# EAGLE library part ADS1256IDBT (library nanoeeg)
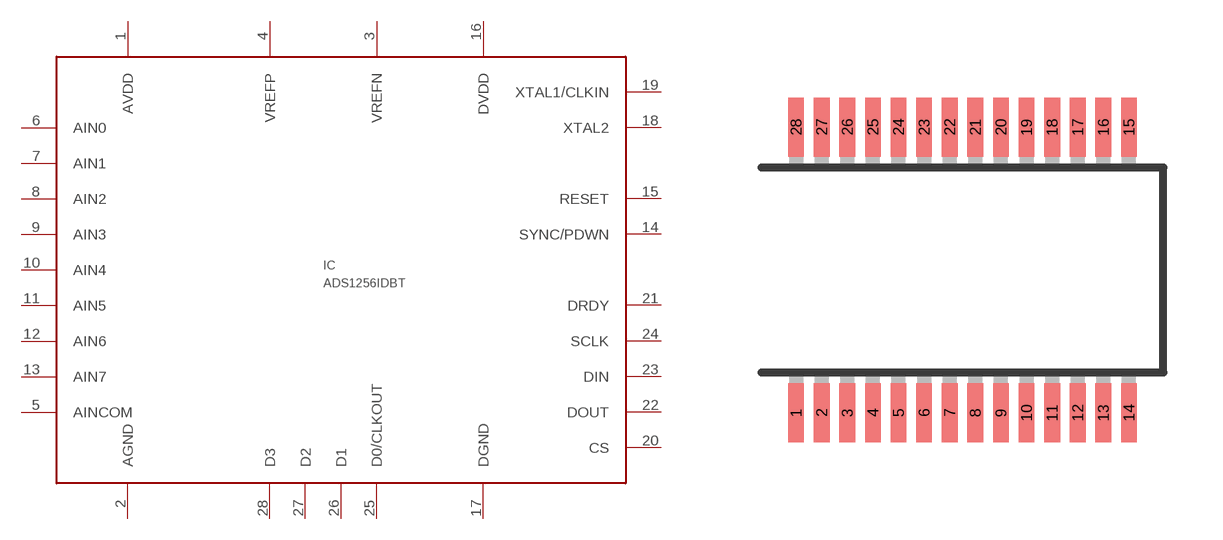
[diagram p1: symbol with the pads of ADS1256IDBT; footprint ADS1256IDBT]

Designator prefix IC

## ADS1256IDBT  [ADS1256IDBT]
1  AVDD
2  AGND
3  VREFN
4  VREFP
5  AINCOM
6  AIN0
7  AIN1
8  AIN2
9  AIN3
10  AIN4
11  AIN5
12  AIN6
13  AIN7
14  SYNC/PDWN
15  RESET
16  DVDD
17  DGND
18  XTAL2
19  XTAL1/CLKIN
20  CS
21  DRDY
22  DOUT
23  DIN
24  SCLK
25  D0/CLKOUT
26  D1
27  D2
28  D3

## Footprint ADS1256IDBT (pad centres in mm)
Shrink Small Outline Package package type SS
smd 0.4 x 1.5: 1 -4.225,-3.625; 2 -3.575,-3.625; 3 -2.925,-3.625; 4 -2.275,-3.625; 5 -1.625,-3.625; 6 -0.975,-3.625; 7 -0.325,-3.625; 8 0.325,-3.625; 9 0.975,-3.625; 10 1.625,-3.625; 11 2.275,-3.625; 12 2.925,-3.625; 13 3.575,-3.625; 14 4.225,-3.625; 15 4.225,3.625; 16 3.575,3.625; 17 2.925,3.625; 18 2.275,3.625; 19 1.625,3.625; 20 0.975,3.625; 21 0.325,3.625; 22 -0.325,3.625; 23 -0.975,3.625; 24 -1.625,3.625; 25 -2.275,3.625; 26 -2.925,3.625; 27 -3.575,3.625; 28 -4.225,3.625